# Altium footprint library LEDs_Manufacturers.PcbLib: 6 footprints
Each footprint in its own frame and in the unit in brackets; x right, y up, seen from the top. Pads: shape width x height; smd on the part's side, far side on the other; paste and mask are expansions set on the pad; w line width, h text height; cw(c..) or ccw(c..) is an arc to the next point about the centre after c.
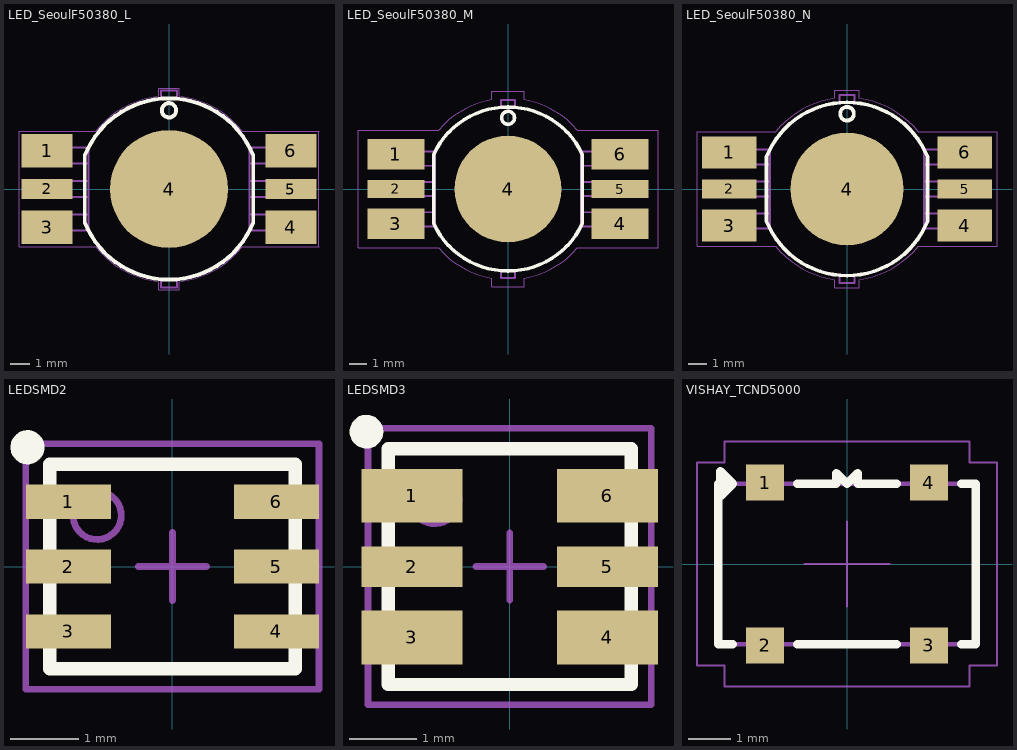
[diagram p0: the footprints below, top view; thin cyan lines are the x and y axes]

## LED_SeoulF50380_L [mm] "Z-Power LED, 7-Leads, IPC High Density"
height 2.5
pads (7):
  rect 2.6x1.7 smd: 1(-6.2,1.95) 3(-6.2,-1.95) 4(6.2,-1.95) 6(6.2,1.95)
  rect 2.6x1 smd: 2(-6.2,0) 5(6.2,0)
  round 6 smd: 4(0,0)
Top Overlay:
  circle w0.2: c0,4 r0.364
  lines w0.2: -4.284,-1.694 ccw(c0,0) 4.284,-1.694 4.284,1.694 ccw(c0,0) -4.284,1.694 -4.284,-1.694
TopBody:
  circle w0.1: c0,4 r0.364
  lines w0.1: -4.1,-1.3 -5.06,-1.3 -5.06,-2.1 -4.1,-2.1 ; -4.1,-0.4 -5.06,-0.4 -5.06,0.4 -4.1,0.4 ; -4.1,1.3 -5.06,1.3 -5.06,2.1 -4.1,2.1 ; -0.4,-4.6 -0.4,-5 0.4,-5 0.4,-4.6 ; -0.4,4.6 -0.4,5 0.4,5 0.4,4.6 ; 4.1,-1.3 5.06,-1.3 5.06,-2.1 4.1,-2.1 ; 4.1,-0.4 5.06,-0.4 5.06,0.4 4.1,0.4 ; 4.1,1.3 5.06,1.3 5.06,2.1 4.1,2.1 ; -4.1,-2.1 ccw(c0,0) 4.1,-2.1 ; -4.1,-2.1 -4.1,2.1 ; -4.1,-2.1 -4.1,2.1 ; -4.1,2.1 cw(c0,0) 4.1,2.1 ; 4.1,-2.1 4.1,2.1
  text ".Designator" at -0.635,-0.254 h0.5
TopCourtyard:
  lines w0.05: -3.719,-2.926 ccw(c0,0) -0.525,-4.703 ; -3.719,-2.925 -7.625,-2.925 -7.625,2.925 -3.719,2.925 ; -3.719,2.926 cw(c0,0) -0.525,4.703 ; -0.525,-4.703 -0.525,-5.125 0.525,-5.125 0.525,-4.703 ; -0.525,4.703 -0.525,5.125 0.525,5.125 0.525,4.703 ; -0.5,0 0.5,0 ; 0,-0.5 0,0.5 ; 0.525,-4.703 ccw(c0,0) 3.719,-2.926 ; 0.525,4.703 cw(c0,0) 3.719,2.926 ; 3.719,-2.925 7.625,-2.925 7.625,2.925 3.719,2.925
3D body: height 1.55, standoff 1.3, extent -0.4,4.6 0.4,5
3D body: height 1.55, standoff 1.3, extent -0.4,-5 0.4,-4.6
3D body: height 2.5, standoff 0, extent -4.1,-4.6 4.1,4.6
3D body: height 1.55, standoff 1.3, extent 4.1,-0.4 5.06,0.4
3D body: height 1.55, standoff 1.3, extent 4.1,-2.1 5.06,-1.3
3D body: height 1.55, standoff 1.3, extent -5.06,-2.1 -4.1,-1.3
3D body: height 1.55, standoff 1.3, extent -5.06,1.3 -4.1,2.1
3D body: height 1.55, standoff 1.3, extent -5.06,-0.4 -4.1,0.4
3D body: height 1.55, standoff 1.3, extent 4.1,1.3 5.06,2.1

## LED_SeoulF50380_M [mm] "Z-Power LED, 7-Leads, IPC Low Density"
height 2.5
pads (7):
  rect 3.2x1.7 smd: 1(-6.3,1.95) 3(-6.3,-1.95) 4(6.3,-1.95) 6(6.3,1.95)
  rect 3.2x1 smd: 2(-6.3,0) 5(6.3,0)
  round 6 smd: 4(0,0)
Top Overlay:
  circle w0.2: c0,4 r0.364
  lines w0.2: -4.174,1.949 -4.174,-1.949 ccw(c0,0) 4.174,-1.949 4.174,1.949 ; -4.174,1.949 cw(c0,0) 4.174,1.949
TopBody:
  circle w0.1: c0,4 r0.364
  lines w0.1: -4.1,-1.3 -5.06,-1.3 -5.06,-2.1 -4.1,-2.1 ; -4.1,-0.4 -5.06,-0.4 -5.06,0.4 -4.1,0.4 ; -4.1,1.3 -5.06,1.3 -5.06,2.1 -4.1,2.1 ; -0.4,-4.6 -0.4,-5 0.4,-5 0.4,-4.6 ; -0.4,4.6 -0.4,5 0.4,5 0.4,4.6 ; 4.1,-1.3 5.06,-1.3 5.06,-2.1 4.1,-2.1 ; 4.1,-0.4 5.06,-0.4 5.06,0.4 4.1,0.4 ; 4.1,1.3 5.06,1.3 5.06,2.1 4.1,2.1 ; -4.1,-2.1 ccw(c0,0) 4.1,-2.1 ; -4.1,-2.1 -4.1,2.1 ; -4.1,-2.1 -4.1,2.1 ; -4.1,2.1 cw(c0,0) 4.1,2.1 ; 4.1,-2.1 4.1,2.1
  text ".Designator" at -0.635,-0.254 h0.5
TopCourtyard:
  lines w0.05: -3.897,-3.3 -8.425,-3.3 -8.425,3.3 -3.897,3.3 ; -3.893,-3.302 ccw(c0,0) -0.9,-5.025 -0.9,-5.5 0.9,-5.5 0.9,-5.025 ccw(c0,0) 3.893,-3.302 ; -3.893,3.302 cw(c0,0) -0.9,5.025 ; -0.5,0 0.5,0 ; 0,-0.5 0,0.5 ; 3.893,3.302 ccw(c0,0) 0.9,5.025 ; 3.897,-3.3 8.425,-3.3 8.425,3.3 3.897,3.3 ; -0.9,5.025 -0.9,5.5 ; -0.9,5.025 -0.9,5.5 ; -0.9,5.5 0.9,5.5 ; -0.9,5.5 0.9,5.5 ; 0.9,5.025 0.9,5.5 ; 0.9,5.025 0.9,5.5
3D body: height 1.55, standoff 1.3, extent -0.4,4.6 0.4,5
3D body: height 1.55, standoff 1.3, extent -0.4,-5 0.4,-4.6
3D body: height 2.5, standoff 0, extent -4.1,-4.6 4.1,4.6
3D body: height 1.55, standoff 1.3, extent 4.1,-0.4 5.06,0.4
3D body: height 1.55, standoff 1.3, extent 4.1,-2.1 5.06,-1.3
3D body: height 1.55, standoff 1.3, extent -5.06,-2.1 -4.1,-1.3
3D body: height 1.55, standoff 1.3, extent -5.06,1.3 -4.1,2.1
3D body: height 1.55, standoff 1.3, extent -5.06,-0.4 -4.1,0.4
3D body: height 1.55, standoff 1.3, extent 4.1,1.3 5.06,2.1

## LED_SeoulF50380_N [mm] "Z-Power LED, 7-Leads, IPC Medium Density"
height 2.5
pads (7):
  rect 2.9x1.7 smd: 1(-6.25,1.95) 3(-6.25,-1.95) 4(6.25,-1.95) 6(6.25,1.95)
  rect 2.9x1 smd: 2(-6.25,0) 5(6.25,0)
  round 6 smd: 4(0,0)
Top Overlay:
  circle w0.2: c0,4 r0.364
  lines w0.2: -4.284,-1.694 ccw(c0,0) 4.284,-1.694 4.284,1.694 ccw(c0,0) -4.284,1.694 -4.284,-1.694
TopBody:
  circle w0.1: c0,4 r0.364
  lines w0.1: -4.1,-1.3 -5.06,-1.3 -5.06,-2.1 -4.1,-2.1 ; -4.1,-0.4 -5.06,-0.4 -5.06,0.4 -4.1,0.4 ; -4.1,1.3 -5.06,1.3 -5.06,2.1 -4.1,2.1 ; -0.4,-4.6 -0.4,-5 0.4,-5 0.4,-4.6 ; -0.4,4.6 -0.4,5 0.4,5 0.4,4.6 ; 4.1,-1.3 5.06,-1.3 5.06,-2.1 4.1,-2.1 ; 4.1,-0.4 5.06,-0.4 5.06,0.4 4.1,0.4 ; 4.1,1.3 5.06,1.3 5.06,2.1 4.1,2.1 ; -4.1,-2.1 ccw(c0,0) 4.1,-2.1 ; -4.1,-2.1 -4.1,2.1 ; -4.1,-2.1 -4.1,2.1 ; -4.1,2.1 cw(c0,0) 4.1,2.1 ; 4.1,-2.1 4.1,2.1
  text ".Designator" at -0.635,-0.254 h0.5
TopCourtyard:
  lines w0.05: -3.778,-3.052 ccw(c0,0) -0.652,-4.813 ; -3.778,-3.05 -7.975,-3.05 -7.975,3.05 -3.778,3.05 ; -3.778,3.052 cw(c0,0) -0.652,4.813 ; -0.65,-4.813 -0.65,-5.25 0.65,-5.25 0.65,-4.813 ; -0.65,4.813 -0.65,5.25 0.65,5.25 0.65,4.813 ; -0.5,0 0.5,0 ; 0,-0.5 0,0.5 ; 0.652,-4.813 ccw(c0,0) 3.778,-3.052 ; 0.652,4.813 cw(c0,0) 3.778,3.052 ; 3.778,-3.05 7.975,-3.05 7.975,3.05 3.778,3.05
3D body: height 1.55, standoff 1.3, extent 4.1,1.3 5.06,2.1
3D body: height 1.55, standoff 1.3, extent -5.06,-0.4 -4.1,0.4
3D body: height 1.55, standoff 1.3, extent -5.06,1.3 -4.1,2.1
3D body: height 1.55, standoff 1.3, extent -5.06,-2.1 -4.1,-1.3
3D body: height 1.55, standoff 1.3, extent 4.1,-2.1 5.06,-1.3
3D body: height 1.55, standoff 1.3, extent 4.1,-0.4 5.06,0.4
3D body: height 2.5, standoff 0, extent -4.1,-4.6 4.1,4.6
3D body: height 1.55, standoff 1.3, extent -0.4,-5 0.4,-4.6
3D body: height 1.55, standoff 1.3, extent -0.4,4.6 0.4,5

## LEDSMD2 [mm] "LED SMD, 6-Leads, Body 2.8x3.5mm (max), Pitch 1.00mm, IPC High Density"
height 1.45
pads (6):
  rect 1.25x0.5 smd: 1(-1.525,0.95) 2(-1.525,0) 3(-1.525,-0.95) 4(1.525,-0.95) 5(1.525,0) 6(1.525,0.95)
Top Overlay:
  circle w0.25: c-2.125,1.75 r0.125
  lines w0.2: -1.8,-1.5 -1.8,1.5 1.8,1.5 1.8,-1.5 -1.8,-1.5
TopBody:
  circle w0.1: c-1.104,0.75 r0.354
  lines w0.1: -1.8,-1.45 -1.8,1.45 1.8,1.45 1.8,-1.45 -1.8,-1.45
TopCourtyard:
  lines w0.1: -0.5,0 0,0 ; 0,-0.5 0,0 ; 0,0.5 0,0 ; 0.5,0 0,0 ; -2.15,-1.8 -2.15,1.8 2.15,1.8 2.15,-1.8 -2.15,-1.8
3D body: height 1.45, standoff 0, extent -1.8,-1.45 1.8,1.45

## LEDSMD3 [mm] "LED SMD, 6-Leads, Body 3.5x3.6mm (max), Pitch 1.05mm, IPC High Density"
height 2
pads (6):
  rect 1.5x0.8 smd: 1(-1.45,1.05) 3(-1.45,-1.05) 4(1.45,-1.05) 6(1.45,1.05)
  rect 1.5x0.6 smd: 2(-1.45,0) 5(1.45,0)
Top Overlay:
  circle w0.25: c-2.125,2 r0.125
  lines w0.2: -1.8,-1.75 1.8,-1.75 1.8,1.75 -1.8,1.75 -1.8,-1.75
TopBody:
  circle w0.1: c-1.114,1 r0.364
  lines w0.1: -1.8,-1.75 1.8,-1.75 1.8,1.75 -1.8,1.75 -1.8,-1.75
TopCourtyard:
  lines w0.1: -0.5,0 0,0 ; 0,-0.5 0,0 ; 0,0.5 0,0 ; 0.5,0 0,0 ; -2.1,-2.05 2.1,-2.05 2.1,2.05 -2.1,2.05 -2.1,-2.05
3D body: height 2, standoff 0, extent -1.8,-1.75 1.8,1.75

## VISHAY_TCND5000 [mm] "Reflective Optical Sensor with PIN Photodiode Output"
height 4.1
pads (4):
  rect 0.9x0.85 smd: 1(-1.94,1.925) 2(-1.94,-1.925) 3(1.94,-1.925) 4(1.94,1.925)
Top Overlay:
  lines w0.2: -3,1.7 -2.8,1.9 -3,2.1 ; -3,1.8 -2.9,1.9 -3,2 ; -2.7,-1.9 -3.05,-1.9 -3.05,1.9 -2.7,1.9 ; -1.175,-1.9 1.175,-1.9 ; -1.175,1.9 -0.25,1.9 -0.25,2.15 0,1.9 0.25,2.15 0.25,1.9 1.175,1.9 ; 2.7,-1.9 3.05,-1.9 3.05,1.9 2.7,1.9 ; -2.7,1.9 -3,1.6 -3,2.2 -2.7,1.9
TopBody:
  lines w0.1: -2.25,1.9 -1.95,1.6 -1.65,1.9 ; -2.15,1.9 -1.95,1.7 -1.75,1.9 ; -2.05,1.9 -1.95,1.8 -1.85,1.9 ; -3.05,-1.9 -3.05,1.9 3.05,1.9 3.05,-1.9 -3.05,-1.9
  text ".Designator" at -0.825,-0.175 h0.5
TopCourtyard:
  lines w0.05: -1,0 0,0 ; 0,-1 0,0 ; 0,1 0,0 ; 1,0 0,0 ; -3.55,-2.4 -3.55,2.4 -2.9,2.4 -2.9,2.9 2.9,2.9 2.9,2.4 3.55,2.4 3.55,-2.4 2.9,-2.4 2.9,-2.9 -2.9,-2.9 -2.9,-2.4 -3.55,-2.4
3D body: height 4.1, standoff 0, extent -3.05,-1.9 3.05,1.9